# EAGLE library part DIPSWITCH_4P (library dipswitch4p_updated)
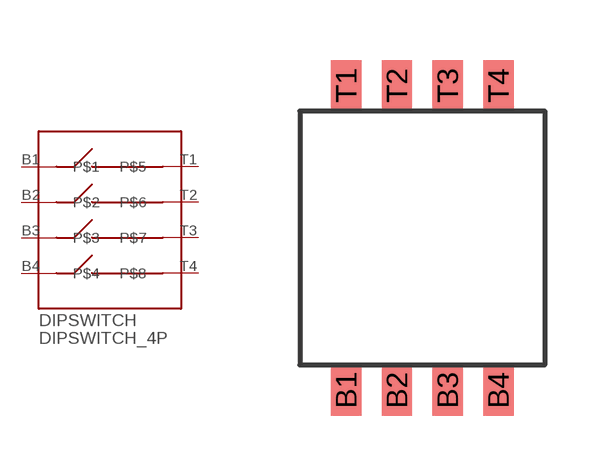
[diagram p0: symbol with the pads of DIPSWITCH4P; footprint DIPSWITCH4P]

Designator prefix DIPSWITCH

## DIPSWITCH_4P  [DIPSWITCH4P]
B1  P$1
B2  P$2
B3  P$3
B4  P$4
T1  P$5
T2  P$6
T3  P$7
T4  P$8

## Footprint DIPSWITCH4P (pad centres in mm)
smd 0.76 x 1.27: B1 0,0; B2 1.27,0; B3 2.54,0; B4 3.81,0; T1 0,7.62; T2 1.27,7.62; T3 2.54,7.62; T4 3.81,7.62